# Altium schematic symbol library Tactile_Switches_Buttons.SchLib: 2 symbols
Pins are listed as number, name and electrical type; pins without a type are passive.

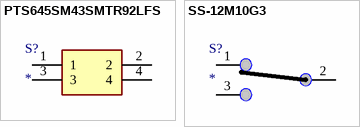
[diagram p0: symbols PTS645SM43SMTR92LFS to SS-12M10G3]

## PTS645SM43SMTR92LFS
designator S?
Switch; Manufacturer_Name: C & K COMPONENTS; Manufacturer_Part_Number: PTS645SM43SMTR92LFS; Datasheet Link: https://www.ckswitches.com/media/1471/pts645.pdf; Mouser Part Number: 611-PTS645SM43SMTR92; Mouser Price/Stock: https://www.mouser.co.uk/ProductDetail/CK/PTS645SM43SMTR92LFS?qs=FESYatJ8odKPktxv6ncfWg%3D%3D; Arrow Part Number: PTS645SM43SMTR92LFS; Arrow Price/Stock: https://www.arrow.com/en/products/pts645sm43smtr92lfs/ck
footprint PTS645_SMT (Footprint not found)
pins: 1, 2, 3, 4

## SS-12M10G3
designator S?
Slide Switch
pins: 1, 2, 3